# EAGLE library part I-12767_ADUM3160BRWZ (library USB-ISO)
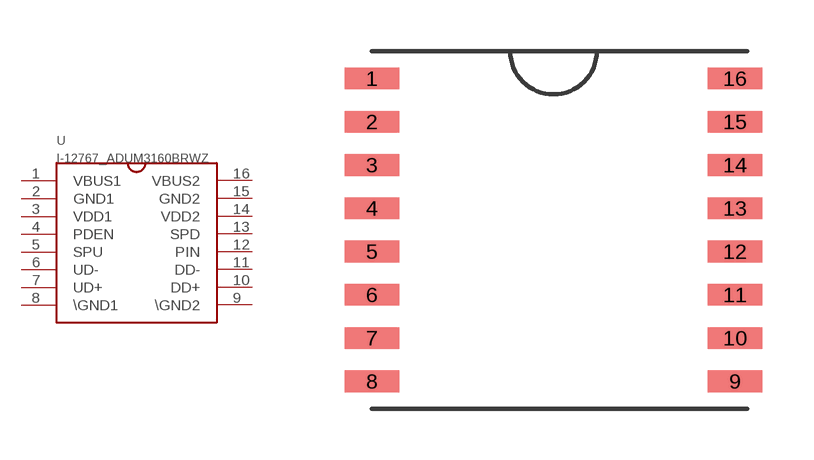
[diagram p0: symbol with the pads of ADUM3160BRWZ; footprint ADUM3160BRWZ]

Designator prefix U

## I-12767_ADUM3160BRWZ  [ADUM3160BRWZ]
1  VBUS1
2  GND1
3  VDD1
4  PDEN
5  SPU
6  UD-
7  UD+
8  \GND1
9  \GND2
10  DD+
11  DD-
12  PIN
13  SPD
14  VDD2
15  GND2
16  VBUS2

## Footprint ADUM3160BRWZ (pad centres in mm)
smd 1.6 x 0.635: 1 -5.325,4.445; 2 -5.325,3.175; 3 -5.325,1.905; 4 -5.325,0.635; 5 -5.325,-0.635; 6 -5.325,-1.905; 7 -5.325,-3.175; 8 -5.325,-4.445; 9 5.325,-4.445; 10 5.325,-3.175; 11 5.325,-1.905; 12 5.325,-0.635; 13 5.325,0.635; 14 5.325,1.905; 15 5.325,3.175; 16 5.325,4.445